# Altium footprint library 研发中心PCB库文件.PcbLib: 333 footprints (part 19 of 21)
Each footprint in its own frame and in the unit in brackets; x right, y up, seen from the top. Pads: shape width x height; smd on the part's side, far side on the other; paste and mask are expansions set on the pad; w line width, h text height; cw(c..) or ccw(c..) is an arc to the next point about the centre after c.
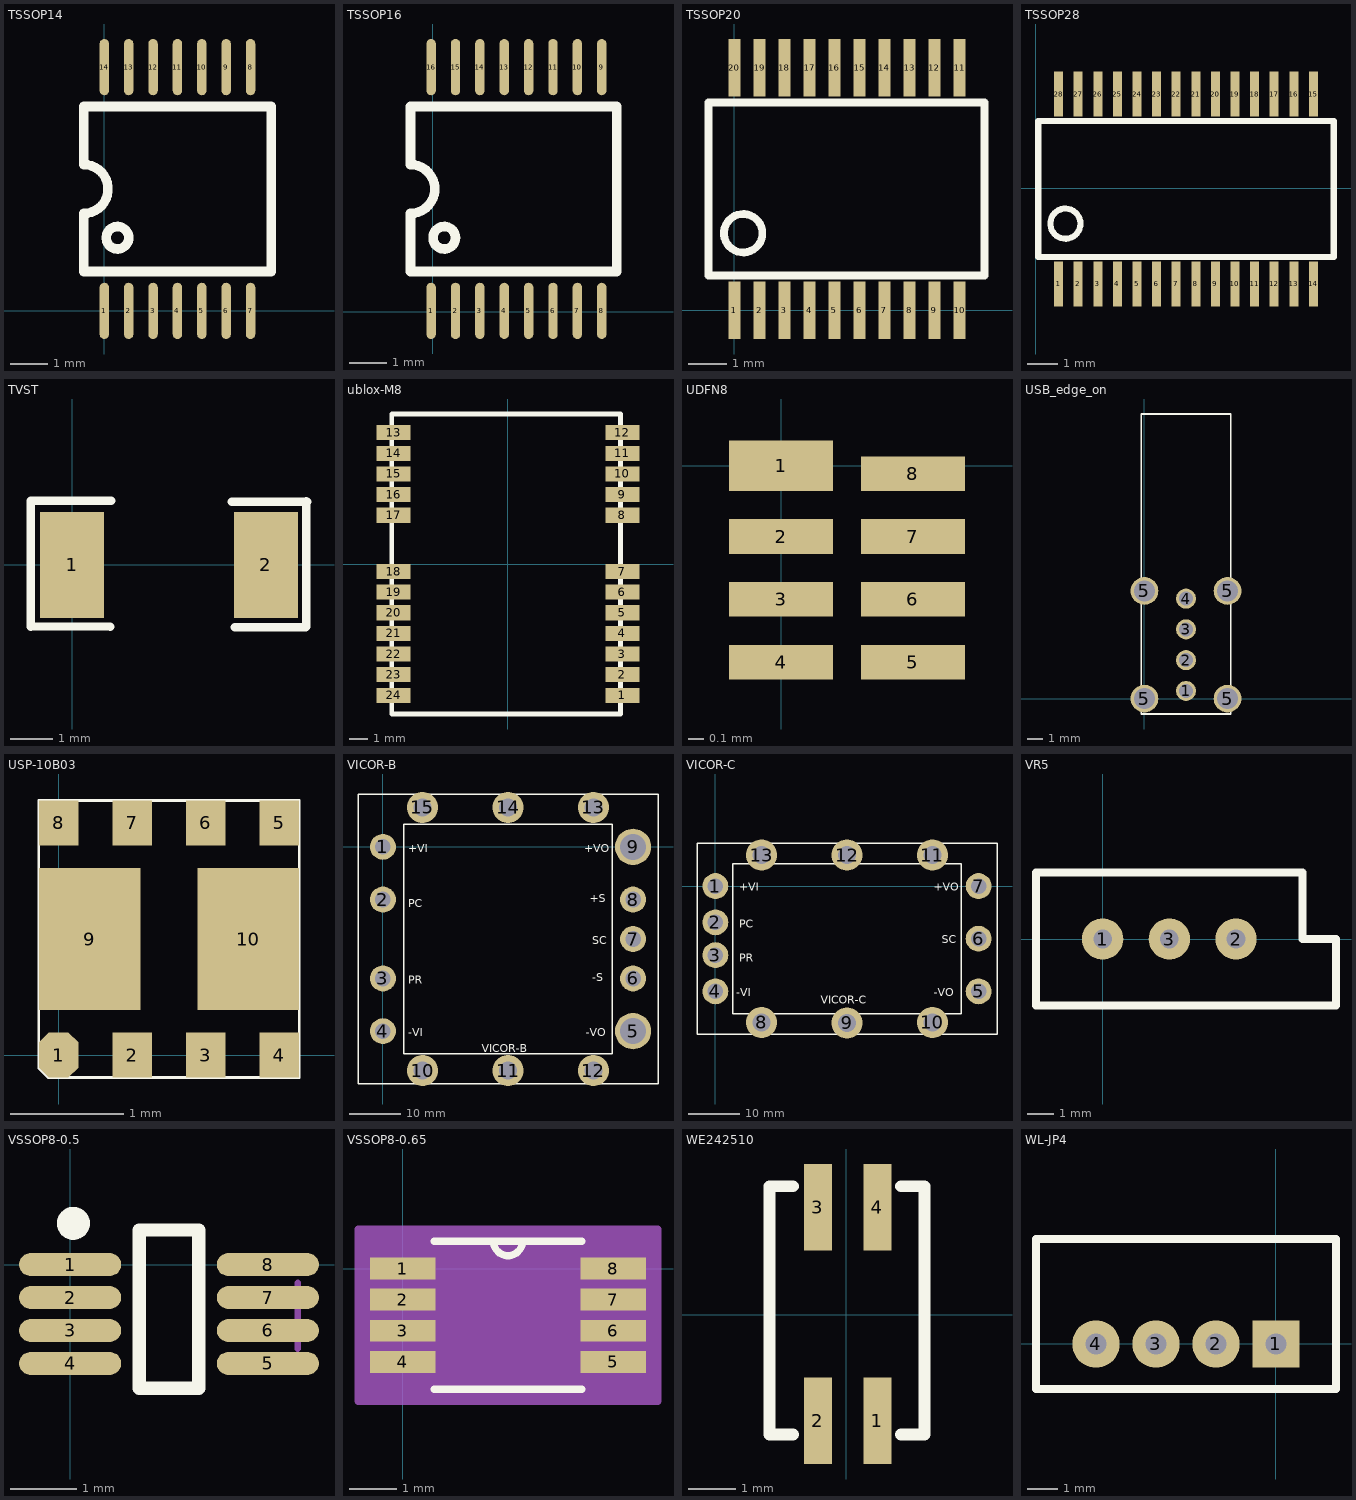
[diagram p18: the footprints below, top view; thin cyan lines are the x and y axes]

## TSSOP14 [mm]
pads (14):
  oval 0.25x1.5 smd: 1(0.001,0.001) 2(0.651,0.001) 3(1.301,0.001) 4(1.951,0.001) 5(2.601,0.001) 6(3.251,0.001) 7(3.901,0.001) 8(3.901,6.501) 9(3.251,6.501) 10(2.601,6.501) 11(1.951,6.501) 12(1.301,6.501) 13(0.651,6.501) 14(0.001,6.501)
Top Overlay:
  circle w0.254: c0.351,1.951 r0.3
  lines w0.254: -0.549,1.051 -0.549,2.601 ccw(c-0.549,3.251) -0.549,3.901 -0.549,5.451 4.451,5.451 4.451,1.051 -0.549,1.051

## TSSOP16 [mm]
pads (16):
  oval 0.25x1.5 smd: 1(-0.05,0.025) 2(0.6,0.025) 3(1.25,0.025) 4(1.9,0.025) 5(2.55,0.025) 6(3.2,0.025) 7(3.85,0.025) 8(4.5,0.025) 9(4.5,6.525) 10(3.85,6.525) 11(3.2,6.525) 12(2.55,6.525) 13(1.9,6.525) 14(1.25,6.525) 15(0.6,6.525) 16(-0.05,6.525)
Top Overlay:
  circle w0.254: c0.3,1.975 r0.3
  lines w0.254: -0.6,1.075 4.9,1.075 4.9,5.475 -0.6,5.475 -0.6,3.925 cw(c-0.6,3.275) -0.6,2.625 -0.6,1.075

## TSSOP20 [mm]
pads (20):
  rect 0.3x1.5 smd: 1(0,0) 2(0.65,0) 3(1.3,0) 4(1.95,0) 5(2.6,0) 6(3.25,0) 7(3.9,0) 8(4.55,0) 9(5.2,0) 10(5.85,0) 11(5.85,6.3) 12(5.2,6.3) 13(4.55,6.3) 14(3.9,6.3) 15(3.25,6.3) 16(2.6,6.3) 17(1.95,6.3) 18(1.3,6.3) 19(0.65,6.3) 20(0,6.3)
Top Overlay:
  circle w0.2: c0.225,2 r0.5
  lines w0.2: -0.675,0.9 6.5,0.9 6.5,5.4 -0.675,5.4 -0.675,0.9

## TSSOP28 [mm]
pads (28):
  rect 0.3x1.5 smd: 1(0.756,-3.168) 2(1.406,-3.168) 3(2.056,-3.168) 4(2.706,-3.168) 5(3.356,-3.168) 6(4.006,-3.168) 7(4.656,-3.168) 8(5.306,-3.168) 9(5.956,-3.168) 10(6.606,-3.168) 11(7.256,-3.168) 12(7.906,-3.168) 13(8.556,-3.168) 14(9.206,-3.168) 15(9.206,3.132) 16(8.556,3.132) 17(7.906,3.132) 18(7.256,3.132) 19(6.606,3.132) 20(5.956,3.132) 21(5.306,3.132) 22(4.656,3.132) 23(4.006,3.132) 24(3.356,3.132) 25(2.706,3.132) 26(2.056,3.132) 27(1.406,3.132) 28(0.756,3.132)
Top Overlay:
  circle w0.2: c0.981,-1.168 r0.5
  lines w0.2: 0.081,-2.268 9.881,-2.268 9.881,2.232 0.081,2.232 0.081,-2.268

## TVST [mm]
pads (2):
  rect 1.5x2.5 smd: 1(0,0) 2(4.572,0)
Top Overlay:
  lines w0.2: -0.974,-1.463 -0.974,1.503 ; -0.974,1.512 0.928,1.508 ; -0.956,-1.452 0.906,-1.458 ; 3.769,1.494 5.544,1.494 ; 3.832,-1.47 5.508,-1.47 ; 5.526,-1.461 5.526,1.503

## ublox-M8 [mm]
pads (24):
  rect 1.8x0.8 smd: 1(6.1,-7) 2(6.1,-5.9) 3(6.1,-4.8) 4(6.1,-3.7) 5(6.1,-2.6) 6(6.1,-1.5) 7(6.1,-0.4) 8(6.1,2.6) 9(6.1,3.7) 10(6.1,4.8) 11(6.1,5.9) 12(6.1,7) 13(-6.1,7) 14(-6.1,5.9) 15(-6.1,4.8) 16(-6.1,3.7) 17(-6.1,2.6) 18(-6.1,-0.4) 19(-6.1,-1.5) 20(-6.1,-2.6) 21(-6.1,-3.7) 22(-6.1,-4.8) 23(-6.1,-5.9) 24(-6.1,-7)
Top Overlay:
  lines w0.254: -6.2,-8 6,-8 6,8 -6.2,8 -6.2,-8

## UDFN8 [mm]
pads (8):
  rect 0.66x0.32 smd: 1(0,0)
  rect 0.66x0.22 smd: 2(0,-0.45) 3(0,-0.85) 4(0,-1.25) 5(0.84,-1.25) 6(0.84,-0.85) 7(0.84,-0.45) 8(0.84,-0.05)

## USB_edge_on [mm]
height 14.6
pads (8):
  round 1.3 hole 0.92: 1(2.7,0.5) 2(2.7,2.5) 3(2.7,4.5) 4(2.7,6.5)
  round 1.8 hole 1.35: 5(0,0) 5(0,7) 5(5.4,0) 5(5.4,7)
Top Overlay:
  lines w0.1: -0.2,-1 -0.2,18.5 5.6,18.5 5.6,-1 -0.2,-1

## USP-10B03 [mm]
pads (10):
  oct 0.35x0.4 smd: 1(0,0)
  rect 0.35x0.4 smd: 2(0.65,0) 3(1.3,0) 4(1.95,0) 5(1.95,2.05) 6(1.3,2.05) 7(0.65,2.05) 8(0,2.05)
  rect 0.9x1.25 smd: 9(0.275,1.025) 10(1.675,1.025)
Top Overlay:
  lines w0.025: -0.175,-0.113 -0.088,-0.2 2.125,-0.2 2.125,2.25 -0.175,2.25 -0.175,0.4 -0.175,-0.113

## VICOR-B [mm]
pads (15):
  round 5 hole 3: 1(0,0) 2(0,-10.16) 3(0,-25.4) 4(0,-35.56) 6(48.26,-25.4) 7(48.26,-17.78) 8(48.26,-10.16)
  round 7 hole 5: 5(48.26,-35.56) 9(48.26,0)
  round 6 hole 3.5: 10(7.63,-43.18) 11(24.13,-43.18) 12(40.63,-43.18) 13(40.63,7.62) 14(24.13,7.62) 15(7.62,7.62)
Top Overlay:
  lines w0.254: -4.82,-45.73 -4.82,10.17 53.08,10.17 53.08,-45.73 -4.82,-45.73 ; 4.015,-39.88 4.015,4.32 44.245,4.32 44.245,-39.88 4.015,-39.88
  text "-S" at 40.392,-25.898 h1.52
  text "VICOR-B" at 19.056,-39.614 h1.52
  text "+VO" at 38.868,-1.006 h1.52
  text "+S" at 39.884,-10.658 h1.52
  text "SC" at 40.392,-18.786 h1.52
  text "+VI" at 4.832,-1.006 h1.52
  text "PC" at 4.832,-11.674 h1.52
  text "PR" at 4.832,-26.406 h1.52
  text "-VI" at 4.832,-36.566 h1.52
  text "-VO" at 39.116,-36.576 h1.52

## VICOR-C [mm]
pads (13):
  round 5 hole 3: 1(0,0) 2(0,-6.99) 3(0,-13.34) 4(0,-20.32) 5(50.8,-20.32) 6(50.8,-10.16) 7(50.8,0)
  round 6 hole 3.5: 8(8.9,-26.31) 9(25.4,-26.416) 10(41.9,-26.31) 11(41.9,5.99) 12(25.4,5.99) 13(8.9,5.99)
Top Overlay:
  lines w0.254: -3.55,-28.56 54.35,-28.56 54.35,8.24 -3.55,8.24 -3.55,-28.56 ; 3.38,-24.64 47.42,-24.64 47.42,4.32 3.38,4.32 3.38,-24.64
  text "+VO" at 42.17,-0.904 h1.52
  text "SC" at 43.694,-11.064 h1.52
  text "-VO" at 42.17,-21.224 h1.52
  text "VICOR-C" at 20.326,-22.748 h1.52
  text "-VI" at 4.07,-21.224 h1.52
  text "PR" at 4.578,-14.62 h1.52
  text "PC" at 4.578,-8.016 h1.52
  text "+VI" at 4.578,-0.904 h1.52

## VR5 [mil]
pads (3):
  round 62 hole 28: 1(0,0) 2(200,0) 3(100,0)
Top Overlay:
  lines w12: -100,-100 -100,100 300,100 300,0 350,0 350,-100 -100,-100

## VSSOP8-0.5 [mm]
height 1.1
pads (8):
  oval 1.55x0.35 smd: 1(0,0) 2(0,-0.5) 3(0,-1) 4(0,-1.5) 5(3,-1.5) 6(3,-1) 7(3,-0.5) 8(3,0)
Top Overlay:
  circle w0.25: c0.05,0.625 r0.125
  lines w0.2: 1.05,-1.875 1.05,0.525 1.95,0.525 1.95,-1.875 1.05,-1.875
Mechanical 15:
  lines w0.1: 3.45,-1.275 3.45,-0.275

## VSSOP8-0.65 [mil]
pads (8):
  rect 54x18 smd mask+4: 1(0,0) 2(0,-25.59) 3(0,-51.18) 4(0,-76.77) 5(173,-76.77) 6(173,-51.18) 7(173,-25.59) 8(173,0)
Top Overlay:
  lines w6: 25.5,-99.39 147.5,-99.39 ; 25.5,22.61 147.5,22.61 ; 74.5,22.61 ccw(c86.5,22.61) 98.5,22.61
Mechanical 13:
  lines w0: 74.5,22.61 ccw(c86.5,22.61) 98.5,22.61
Mechanical 15:
  region: 210,-109.39 -37,-109.39 -37,32.61 210,32.61
  lines w6: -37,-109.39 -37,32.61 210,32.61 210,-109.39 -37,-109.39
3D body: height 43.1, standoff 0, extent -13,-99.39 186,22.61

## WE242510 [mm]
pads (4):
  rect 0.6x1.85 smd: 1(0.67,-2.254) 2(-0.6,-2.254) 3(-0.6,2.296) 4(0.67,2.296)
Top Overlay:
  lines w0.254: -1.13,-2.554 -1.63,-2.554 -1.63,2.746 -1.13,2.746 ; 1.17,-2.554 1.67,-2.554 1.67,2.746 1.17,2.746

## WL-JP4 [mil]
pads (4):
  rect 62x62 hole 28: 1(0,0)
  round 62 hole 28: 2(-78.74,0) 3(-157.48,0) 4(-236.22,0)
Top Overlay:
  lines w10: -314.96,-59.05 78.74,-59.05 78.74,137.79 -314.96,137.79 -314.96,-59.05